# Altium footprint library Molex_SL_Series.PcbLib: 1 footprints
Each footprint in its own frame and in the unit in brackets; x right, y up, seen from the top. Pads: shape width x height; smd on the part's side, far side on the other; paste and mask are expansions set on the pad; w line width, h text height; cw(c..) or ccw(c..) is an arc to the next point about the centre after c.
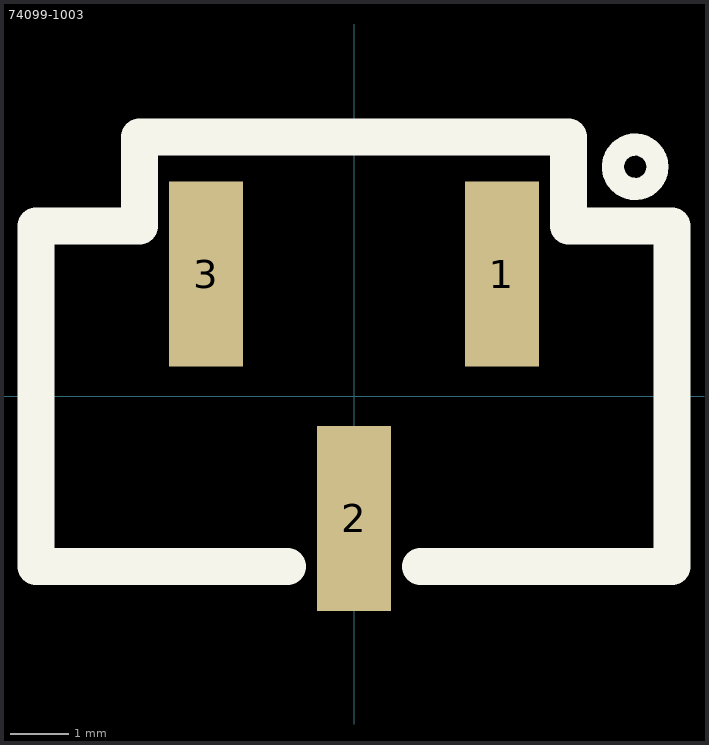
[diagram p0: the footprint, top view; thin cyan lines are the x and y axes]

## 74099-1003 [mil]
pads (3):
  rect 50x125 smd: 1(100,82.5) 2(0,-82.5) 3(-100,82.5)
Top Overlay:
  circle w15: c190,155 r15
  lines w25: -45,-115 -215,-115 -215,115 -145,115 -145,175 145,175 145,115 215,115 215,-115 45,-115
3D body "740991003.stp": height 522.5, standoff 0.3, extent -199.99,-127.5 200.01,160